# EAGLE library part TPS55010 (library isystems)
TPS55010 2.95-V To 6-V Input, 2 W, Isolated DC/DC Converter with Integrated FETs Features: Isolated Fly-Buck™ Topology Primary Side Feedback 100 kHz to 2000 kHz Switching Frequency Synchronizes to External Clock Adjustable Slow Start Adjustable Input Voltage UVLO Open Drain Fault Output Cycle-by-Cycle Current Limit Thermal Shutdown Protection 3 mm x 3 mm 16 Pin QFN Package Applications Noise Immunity in PLCs, Data Acquisition and Measurement Equipment Isolated RS-232 and RS-485 Communication Channels Powers Line Drivers, ISO Amplifiers, Sensors, CAN Transceivers Floating Supplies for IGBT Gate Drivers Promotes Safety in Medical Equipment TPS55010 <http://www.ti.com/product/tps55010?qgpn=tps55010>
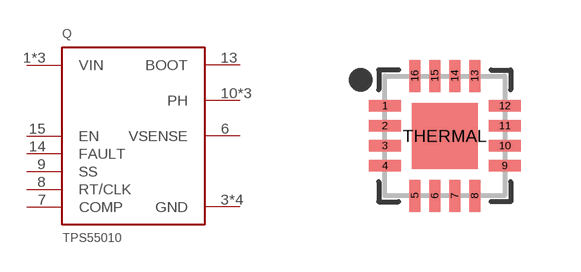
[diagram p55: symbol with the pads of QFN16_3MM; footprint QFN16_3MM]

Designator prefix Q

## TPS55010  [QFN16_3MM]
1  VIN  pwr
2  VIN  pwr
3  GND  pwr
4  GND  pwr
5  GND  pwr
6  VSENSE
7  COMP
8  RT/CLK
9  SS
10  PH
11  PH
12  PH
13  BOOT
14  FAULT
15  EN
16  VIN  pwr
THERMAL  GND  pwr

## Footprint QFN16_3MM (pad centres in mm)
smd 0.8 x 0.28: 1 -1.5,0.75; 2 -1.5,0.25; 3 -1.5,-0.25; 4 -1.5,-0.75; 9 1.5,-0.75; 10 1.5,-0.25; 11 1.5,0.25; 12 1.5,0.75
smd 0.28 x 0.8: 5 -0.75,-1.5; 6 -0.25,-1.5; 7 0.25,-1.5; 8 0.75,-1.5; 13 0.75,1.5; 14 0.25,1.5; 15 -0.25,1.5; 16 -0.75,1.5
smd 1.65 x 1.65: THERMAL 0,0